# Altium schematic symbol library DIP_Switch_1P.SchLib: 1 symbol
Pins are listed as number, name and electrical type; pins without a type are passive.

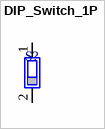
[diagram p0: symbol DIP_Switch_1P]

## DIP_Switch_1P
designator S?
pins: 1, 2